# Altium integrated library ml2r.IntLib: 1 symbol
Pins are listed as number, name and electrical type; pins without a type are passive.

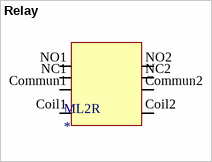
[diagram p0: symbol Relay]

## Relay
designator ML2R
footprint PCBComponent_1
pins: Coil1 C1 (power), Coil2 C2 (power), Commun1 CC1 (power), Commun2 CC2 (power), NC1 (power), NC2 (power), NO1 (power), NO2 (power)